# Altium footprint library OPTO_PRESSURE.PcbLib: 14 footprints
Each footprint in its own frame and in the unit in brackets; x right, y up, seen from the top. Pads: shape width x height; smd on the part's side, far side on the other; paste and mask are expansions set on the pad; w line width, h text height; cw(c..) or ccw(c..) is an arc to the next point about the centre after c.
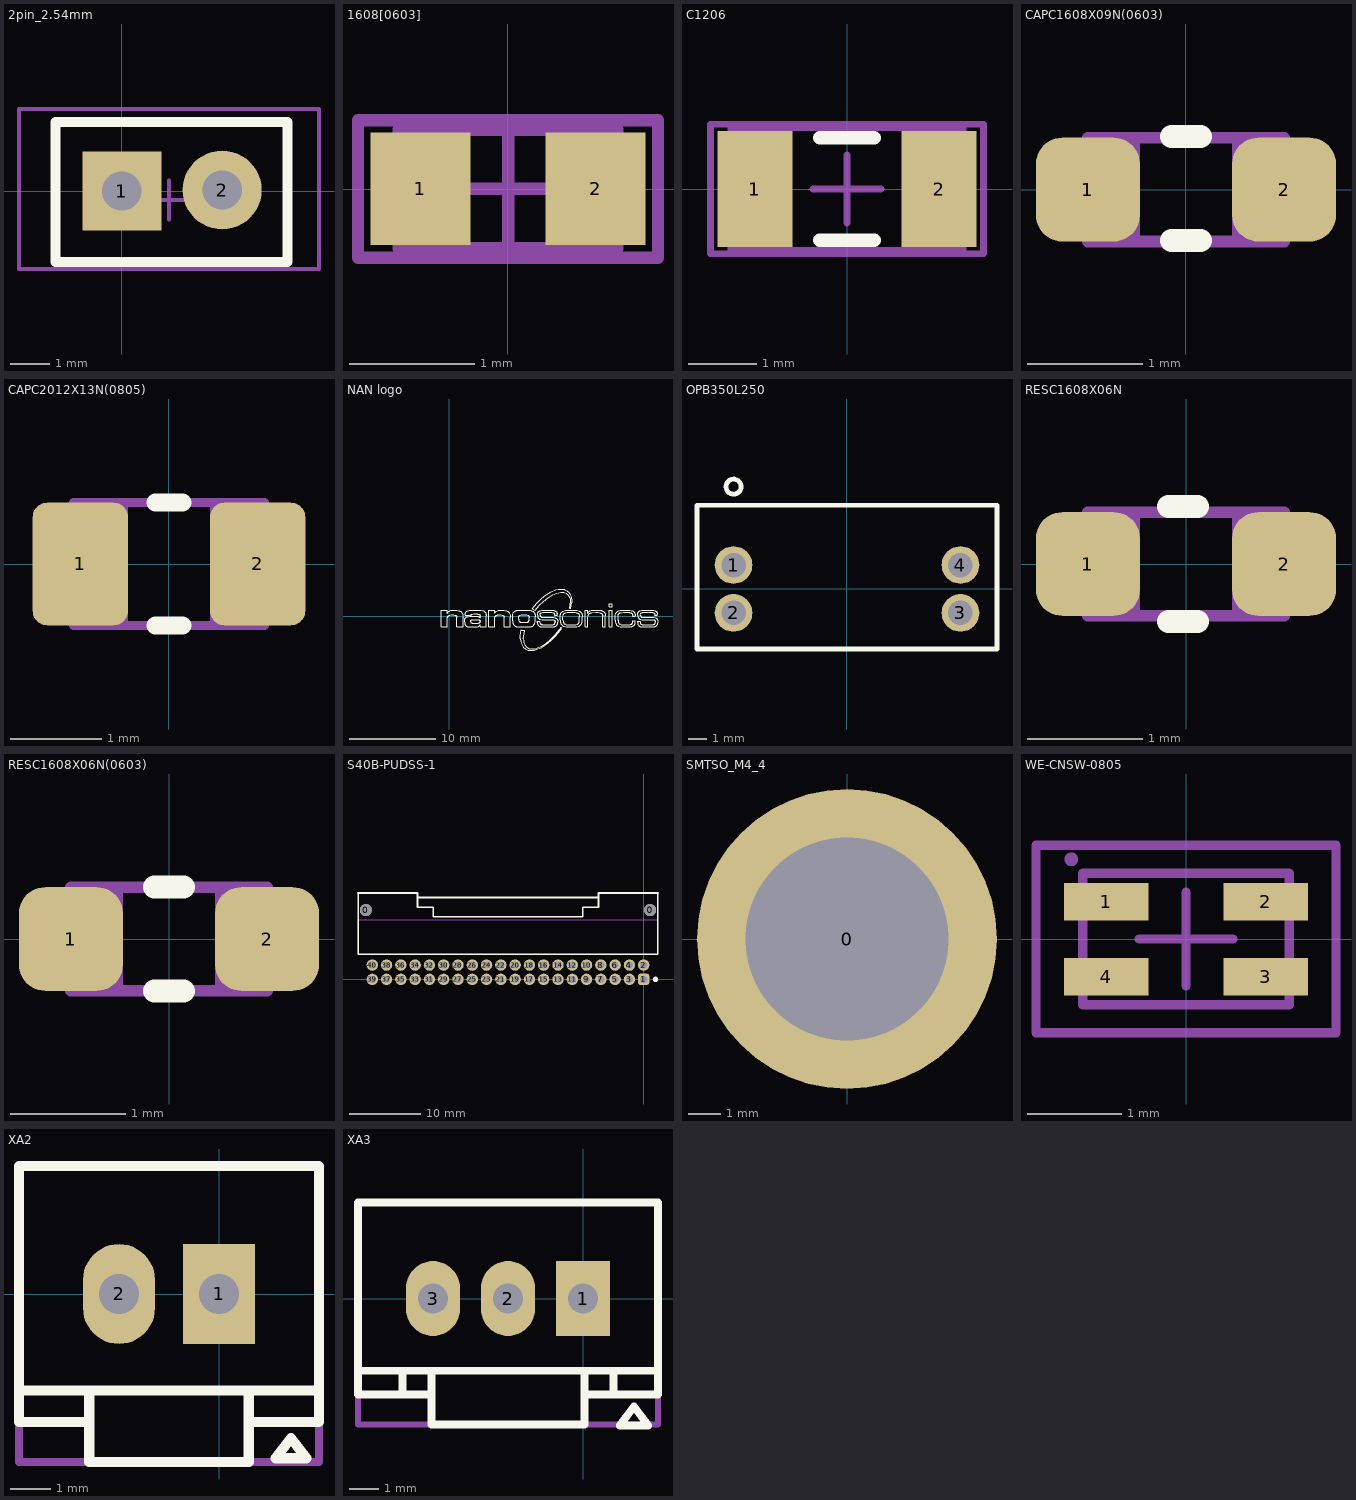
[diagram p0: the footprints below, top view; thin cyan lines are the x and y axes]

## 2pin_2.54mm [mm]
pads (2):
  rect 2x2 hole 1: 1(0,0)
  round 2 hole 1: 2(2.54,0.025)
Top Overlay:
  lines w0.254: -1.676,-1.803 4.191,-1.803 4.191,1.753 -1.676,1.753 -1.676,-1.803
Mechanical 13:
  lines w0.1: -2.606,-1.981 4.994,-1.981 4.994,2.083 -2.606,2.083 -2.606,-1.981
Mechanical 15:
  lines w0.1: 0.694,-0.229 1.694,-0.229 ; 1.194,-0.729 1.194,0.271
3D body "B02B-XASK-1.step": height 8.4, standoff -3.8, extent -2.48,-3.174 5.02,3.226

## 1608[0603] [mm] "Chip Capacitor, Body 1.6x0.8mm, IPC High Density"
height 1.3
pads (2):
  rect 0.8x0.9 smd: 1(-0.7,0) 2(0.7,0)
Mechanical 13:
  lines w0.1: -0.875,-0.475 0.875,-0.475 0.875,0.475 -0.875,0.475 -0.875,-0.475
Mechanical 15:
  lines w0.1: -0.475,0 0.475,0 ; 0,-0.475 0,0.475 ; -1.2,-0.55 1.2,-0.55 1.2,0.55 -1.2,0.55 -1.2,-0.55
3D body: height 1.3, standoff 0, extent -0.875,-0.475 0.875,0.475

## C1206 [mm] "Chip Capacitor, Body 3.2x1.6mm, IPC High Density"
height 1.3
pads (2):
  rect 1.1x1.7 smd: 1(-1.35,0) 2(1.35,0)
Top Overlay:
  lines w0.2: -0.4,-0.75 0.4,-0.75 ; -0.4,0.75 0.4,0.75
Mechanical 13:
  lines w0.1: -1.7,-0.9 1.7,-0.9 1.7,0.9 -1.7,0.9 -1.7,-0.9
Mechanical 15:
  lines w0.1: -0.5,0 0.5,0 ; 0,-0.5 0,0.5 ; -2,-0.95 2,-0.95 2,0.95 -2,0.95 -2,-0.95
3D body: height 1.3, standoff 0, extent -1.7,-0.9 1.7,0.9

## CAPC1608X09N(0603) [mm] "Chip Capacitor 0603, 2-Leads, Body 1.7x0.8mm, H0.9mm, IPC Medium Density"
height 0.9
pads (2):
  rrect50% 0.9x0.9 smd: 1(-0.85,0) 2(0.85,0)
Top Overlay:
  lines w0.2: -0.127,-0.44 0.127,-0.44 ; -0.127,0.46 0.127,0.46
Mechanical 13:
  lines w0.1: -0.85,-0.45 -0.85,0.45 0.85,0.45 0.85,-0.45 -0.85,-0.45
  text ".Designator" at -0.65,-0.19 h0.35
Mechanical 15:
  lines w0.1: -0.45,-0.45 -0.45,0.45 ; 0.45,-0.45 0.45,0.45 ; -0.85,-0.45 -0.85,0.45 0.85,0.45 0.85,-0.45 -0.85,-0.45
3D body: height 0.9, standoff 0, extent 0.45,-0.45 0.85,0.45
3D body: height 0.9, standoff 0, extent -0.85,-0.45 -0.45,0.45
3D body: height 0.9, standoff 0, extent -0.45,-0.45 0.45,0.45

## CAPC2012X13N(0805) [mm] "Chip Capacitor 0805, 2-Leads, Body 2.0x1.3mm, H1.3mm, IPC Medium Density"
height 1.35
pads (2):
  rrect30% 1.05x1.35 smd: 1(-0.975,0) 2(0.975,0)
Top Overlay:
  lines w0.2: -0.15,-0.675 0.15,-0.675 ; -0.15,0.675 0.15,0.675
Mechanical 13:
  lines w0.1: -1.05,-0.675 1.05,-0.675 1.05,0.675 -1.05,0.675 -1.05,-0.675
  text ".Designator" at -0.9,-0.2 h0.35
Mechanical 15:
  lines w0.1: -0.5,-0.675 -0.5,0.675 ; 0.5,-0.675 0.5,0.675 ; -1.05,-0.675 -1.05,0.675 1.05,0.675 1.05,-0.675 -1.05,-0.675
3D body: height 1.35, standoff 0, extent -1.05,-0.675 -0.5,0.675
3D body: height 1.35, standoff 0, extent -0.5,-0.675 0.5,0.675
3D body: height 1.35, standoff 0, extent 0.5,-0.675 1.05,0.675

## NAN logo [mm]
height 1.1
Top Overlay:
  drawing of 1119 lines, arcs and shapes, not listed

## OPB350L250 [mm] "PCB mount for 1/4' tubing liquid sensor"
height 13.34
pads (4):
  round 2 hole 1.3: 1(-6.02,1.27) 2(-6.02,-1.27) 3(6.02,-1.27) 4(6.02,1.27)
Top Overlay:
  circle w0.254: c-6.02,5.43 r0.4
  lines w0.254: 7.92,-3.18 -7.96,-3.18 -7.96,4.44 7.93,4.44 ; 7.96,-3.18 7.96,4.44
3D body "e05009_opt_sensor_opb350l250.stp": height 13.34, standoff -3.18, extent -7.94,-3.21 7.94,4.41

## RESC1608X06N [mm] "Chip Resistor 0603, 2-Leads, Body 1.6x0.8mm, IPC Medium Density"
height 0.55
pads (2):
  rrect50% 0.9x0.9 smd: 1(-0.85,0) 2(0.85,0)
Top Overlay:
  lines w0.2: -0.15,-0.5 0.1,-0.5 ; -0.15,0.5 0.1,0.5
Mechanical 13:
  lines w0.1: -0.85,-0.45 0.85,-0.45 0.85,0.45 -0.85,0.45 -0.85,-0.45
  text ".Designator" at -0.85,-0.125 h0.4
Mechanical 15:
  lines w0.1: -0.45,-0.45 -0.45,0.45 ; 0.45,-0.45 0.45,0.45 ; -0.85,-0.45 0.85,-0.45 0.85,0.45 -0.85,0.45 -0.85,-0.45
3D body: height 0.55, standoff 0, extent -0.85,-0.45 0.85,0.45

## RESC1608X06N(0603) [mm] "Chip Resistor 0603, 2-Leads, Body 1.6x0.8mm, IPC Medium Density"
height 0.55
pads (2):
  rrect50% 0.9x0.9 smd: 1(-0.85,0) 2(0.85,0)
Top Overlay:
  lines w0.2: -0.127,-0.45 0.127,-0.45 ; -0.127,0.45 0.127,0.45
Mechanical 13:
  lines w0.1: -0.85,-0.45 -0.85,0.45 0.85,0.45 0.85,-0.45 -0.85,-0.45
  text ".Designator" at -0.65,-0.19 h0.35
Mechanical 15:
  lines w0.1: -0.45,-0.45 -0.45,0.45 ; 0.45,-0.45 0.45,0.45 ; -0.85,-0.45 -0.85,0.45 0.85,0.45 0.85,-0.45 -0.85,-0.45
3D body: height 0.55, standoff 0, extent 0.45,-0.45 0.85,0.45
3D body: height 0.55, standoff 0, extent -0.85,-0.45 -0.45,0.45
3D body: height 0.55, standoff 0, extent -0.45,-0.45 0.45,0.45

## S40B-PUDSS-1 [mm] "JST - PUD Connector 20x2 Right Angle"
height 10.1
pads (42):
  round 1.7 hole 1.7 unplated: 0(-38.9,9.7) 0(0.9,9.7)
  rrect50% 1.6x1.6 hole 1: 1(0,0)
  round 1.6 hole 1: 2(0,2) 3(-2,0) 4(-2,2) 5(-4,0) 6(-4,2) 7(-6,0) 8(-6,2) 9(-8,0) 10(-8,2) 11(-10,0) 12(-10,2) 13(-12,0) 14(-12,2) 15(-14,0) 16(-14,2) 17(-16,0) 18(-16,2) 19(-18,0) 20(-18,2) 21(-20,0) 22(-20,2) 23(-22,0) 24(-22,2) 25(-24,0) 26(-24,2) 27(-26,0) 28(-26,2) 29(-28,0) 30(-28,2) 31(-30,0) 32(-30,2) 33(-32,0) 34(-32,2) 35(-34,0) 36(-34,2) 37(-36,0) 38(-36,2) 39(-38,0) 40(-38,2)
Top Overlay:
  circle w0.5: c1.651,0 r0.127
  lines w0.2: -40,12.1 -40,3.52 2,3.52 2,12.1
  lines w0.254: -40,12.1 -31.683,12.1 -31.683,10.084 -29.459,10.084 -29.459,8.77 -8.541,8.77 -8.541,10.084 -6.317,10.084 -6.317,11.449 ; -31.683,11.449 -6.317,11.449 ; 2,12.1 -6.317,12.1 -6.317,11.449
Mechanical 13:
  lines w0.1: -40,3.52 2,3.52 2,8.35 -40,8.35 -40,3.52
  text ".Designator" at -7.874,6.223 h2
3D body "S40B-PUDSS-1.STEP": height 8.5, standoff -3, extent -39.905,-0.635 2.095,12.065

## SMTSO_M4_4 [mm] "SMT Standoff Thread M4, 4mm height"
height 4
pads (1):
  round 9.37 / inner round 6.35 / far side round 6.35 hole 6.35 unplated paste+0: 0(0,0)
Top Paste:
  region: -3.171,0.394 -4.661,0.394 -4.648,0.577 -4.593,0.939 -4.51,1.296 -4.398,1.645 -4.259,1.984 -4.094,2.311 -3.903,2.624 -3.688,2.921 -3.569,3.061 -2.503,1.995 -2.634,1.818 -2.857,1.44 -3.026,1.035 -3.137,0.611
  region: -2.521,-1.964 -3.574,-3.017 -3.694,-2.879 -3.912,-2.584 -4.105,-2.272 -4.273,-1.947 -4.415,-1.608 -4.529,-1.26 -4.615,-0.904 -4.673,-0.542 -4.688,-0.359 -3.181,-0.359 -3.148,-0.576 -3.038,-1.001 -2.871,-1.407 -2.65,-1.787
  region: -0.394,-3.171 -0.394,-4.661 -0.577,-4.648 -0.939,-4.593 -1.296,-4.51 -1.645,-4.398 -1.984,-4.259 -2.311,-4.094 -2.624,-3.903 -2.921,-3.688 -3.061,-3.569 -1.995,-2.503 -1.818,-2.634 -1.44,-2.857 -1.035,-3.026 -0.611,-3.137
  region: 1.964,-2.521 3.017,-3.574 2.879,-3.694 2.584,-3.912 2.272,-4.105 1.947,-4.273 1.608,-4.415 1.26,-4.529 0.904,-4.615 0.542,-4.673 0.359,-4.688 0.359,-3.181 0.576,-3.148 1.001,-3.038 1.407,-2.871 1.787,-2.65
  region: 3.171,-0.394 4.661,-0.394 4.648,-0.577 4.593,-0.939 4.51,-1.296 4.398,-1.645 4.259,-1.984 4.094,-2.311 3.903,-2.624 3.688,-2.921 3.569,-3.061 2.503,-1.995 2.634,-1.818 2.857,-1.44 3.026,-1.035 3.137,-0.611
  region: 2.521,1.964 3.574,3.017 3.694,2.879 3.912,2.584 4.105,2.272 4.273,1.947 4.415,1.608 4.529,1.26 4.615,0.904 4.673,0.542 4.688,0.359 3.181,0.359 3.148,0.576 3.038,1.001 2.871,1.407 2.65,1.787
  region: 0.394,3.171 0.394,4.661 0.577,4.648 0.939,4.593 1.296,4.51 1.645,4.398 1.984,4.259 2.311,4.094 2.624,3.903 2.921,3.688 3.061,3.569 1.995,2.503 1.818,2.634 1.44,2.857 1.035,3.026 0.611,3.137
  region: -1.964,2.521 -3.017,3.574 -2.879,3.694 -2.584,3.912 -2.272,4.105 -1.947,4.273 -1.608,4.415 -1.26,4.529 -0.904,4.615 -0.542,4.673 -0.359,4.688 -0.359,3.181 -0.576,3.148 -1.001,3.038 -1.407,2.871 -1.787,2.65
3D body "smtso-m4-4et-pem.stp": height 4.03, standoff -1.5, extent -4.37,-4.37 4.37,4.37

## WE-CNSW-0805 [mm] "SMD Inductor, 4-Leads, Body 1.4 x 2.2 mm"
height 1.4
pads (4):
  rect 0.9x0.4 smd: 1(-0.85,0.4) 2(0.85,0.4) 3(0.85,-0.4) 4(-0.85,-0.4)
Mechanical 13:
  circle w0.1: c-1.224,0.85 r0.024
  lines w0.1: -1.1,-0.7 1.1,-0.7 1.1,0.7 -1.1,0.7 -1.1,-0.7
Mechanical 15:
  lines w0.1: -0.5,0 0.5,0 ; 0,-0.5 0,0.5 ; -1.6,-1 1.6,-1 1.6,1 -1.6,1 -1.6,-1
3D body "744231371.stp": height 1.18, standoff -0.02, extent -1,-0.6 1,0.6

## XA2 [mm] "JST - XA 2 ways, 2.54mm pitch"
height 8.8
pads (2):
  rect 1.8x2.5 hole 1: 1(0,0)
  oval 1.8x2.5 hole 1: 2(-2.5,0)
Top Overlay:
  lines w0.254: -5,-2.413 2.5,-2.413 ; -3.242,-4.2 -3.242,-2.413 ; -3.242,-3.2 -5,-3.2 -5,3.2 2.5,3.2 2.5,-3.175 ; -3.2,-4.2 0.7,-4.2 ; 0.742,-4.2 0.742,-2.413 ; 0.742,-3.2 2.5,-3.2 ; 1.419,-4.108 1.8,-3.6 2.181,-4.108 1.419,-4.108
Mechanical 13:
  lines w0.2: -5,-4.2 -5,3.2 2.5,3.2 2.5,-4.2 -5,-4.2
  text ".Designator" at 2.286,0.254 h1
3D body "B02B-XASK-1.STEP": height 8.8, standoff -3.4, extent -5.05,-3.2 2.45,3.2

## XA3 [mm] "JST - XA Connector 3 ways"
height 8.8
pads (3):
  rect 1.8x2.5 hole 1: 1(0,0)
  oval 1.8x2.5 hole 1: 2(-2.5,0) 3(-5,0)
Top Overlay:
  lines w0.254: -7.493,-2.413 2.5,-2.413 ; -6.016,-3.175 -6.016,-2.413 ; -5.05,-4.2 -5.05,-2.413 ; -5.05,-3.2 -7.5,-3.2 -7.5,3.2 2.5,3.2 2.5,-3.175 ; -5,-4.2 0,-4.2 ; 0.05,-4.2 0.05,-2.413 ; 0.05,-3.2 2.5,-3.2 ; 1.016,-3.175 1.016,-2.413 ; 1.225,-4.233 1.7,-3.6 2.175,-4.233 1.225,-4.233
Mechanical 13:
  lines w0.2: -7.5,-4.2 2.5,-4.2 2.5,3.2 -7.5,3.2 -7.5,-4.2
  text ".Designator" at 2.159,0.508 h1
3D body "B03B-XASK-1.step": height 2.9, standoff -9.3, extent -7.493,-3.2 2.507,3.2